# Altium footprint library DelayLines.PcbLib: 5 footprints
Each footprint in its own frame and in the unit in brackets; x right, y up, seen from the top. Pads: shape width x height; smd on the part's side, far side on the other; paste and mask are expansions set on the pad; w line width, h text height; cw(c..) or ccw(c..) is an arc to the next point about the centre after c.
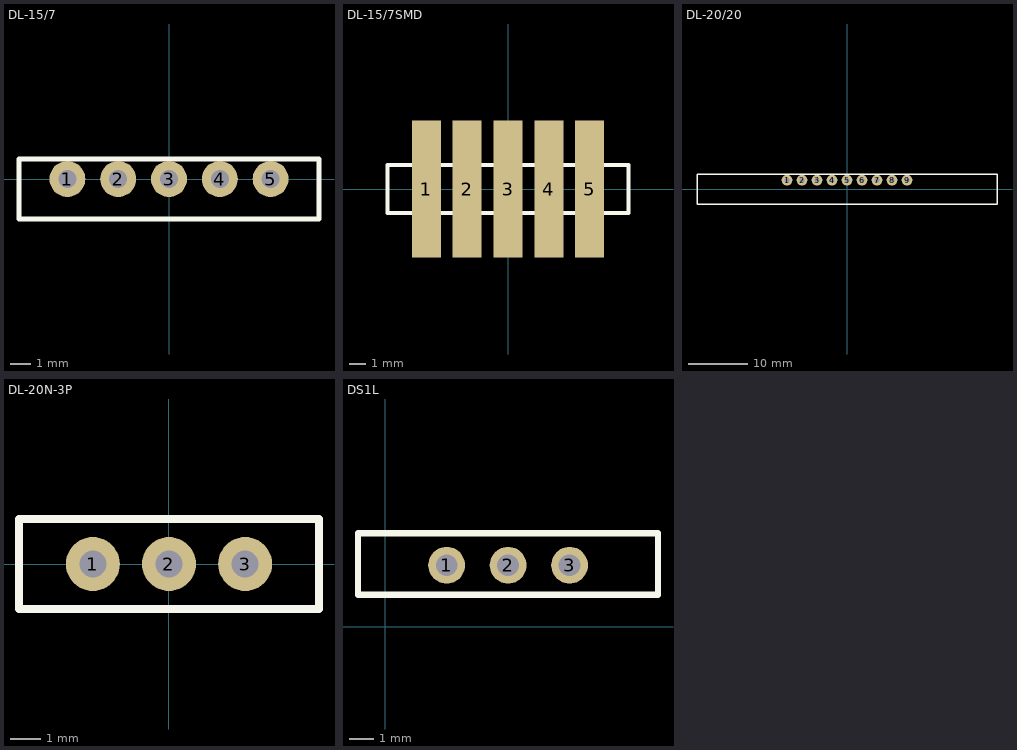
[diagram p0: the footprints below, top view; thin cyan lines are the x and y axes]

## DL-15/7 [mm]
pads (5):
  round 1.8 hole 0.9: 1(-5.08,0) 2(-2.54,0) 3(0,0) 4(2.54,0) 5(5.08,0)
Top Overlay:
  lines w0.254: -7.5,-2 7.5,-2 7.5,1 -7.5,1 -7.5,-2
3D body: height 20, standoff 0, extent -7.5,-2 7.5,1

## DL-15/7SMD [mm]
pads (5):
  rect 1.8x8.5 all layers, no hole: 1(-5.08,0) 2(-2.54,0) 3(0,0) 4(2.54,0) 5(5.08,0)
Top Overlay:
  lines w0.254: -7.5,-1.5 -7.5,1.5 7.5,1.5 7.5,-1.5 -7.5,-1.5
3D body: height 20, standoff 0, extent -7.5,-1.5 7.5,1.5

## DL-20/20 [mm]
pads (9):
  round 1.8 hole 0.9: 1(-10.16,1.5) 2(-7.62,1.5) 3(-5.08,1.5) 4(-2.54,1.5) 5(0,1.5) 6(2.54,1.5) 7(5.08,1.5) 8(7.62,1.5) 9(10.16,1.5)
Top Overlay:
  lines w0.254: -25.4,-2.54 -25.4,2.54 0,2.54 25.4,2.54 25.4,-2.54 0,-2.54 -25.4,-2.54
3D body: height 24, standoff 0, extent -25.527,-2.667 25.527,2.667

## DL-20N-3P [mm]
pads (3):
  round 1.8 hole 0.9: 1(-2.54,0) 2(0,0) 3(2.54,0)
Top Overlay:
  lines w0.254: -3.8,-1.5 3.8,-1.5 ; -5,-1.5 -5,1.5 5,1.5 5,-1.5 -5,-1.5
3D body: height 20, standoff 0, extent -5,-1.5 5,1.5

## DS1L [mil]
pads (3):
  round 60 hole 35.43: 1(100,100) 2(200,100) 3(300,100)
Top Overlay:
  lines w10: -44.29,51.97 -44.29,151.97 443.9,151.97 443.9,51.97 -44.29,51.97